# Altium schematic symbol library SCH - CONNECTORS - WURTH 693043020611.SCHLIB: 1 symbol
Pins are listed as number, name and electrical type; pins without a type are passive.

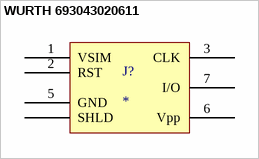
[diagram p0: symbol WURTH 693043020611]

## WURTH 693043020611
designator J?
pins: 1 VSIM, 2 RST, 3 CLK, 5 GND, 6 Vpp, 7 I/O, S SHLD